# Altium schematic symbol library Custom components.SchLib: 21 symbols
Pins are listed as number, name and electrical type; pins without a type are passive.

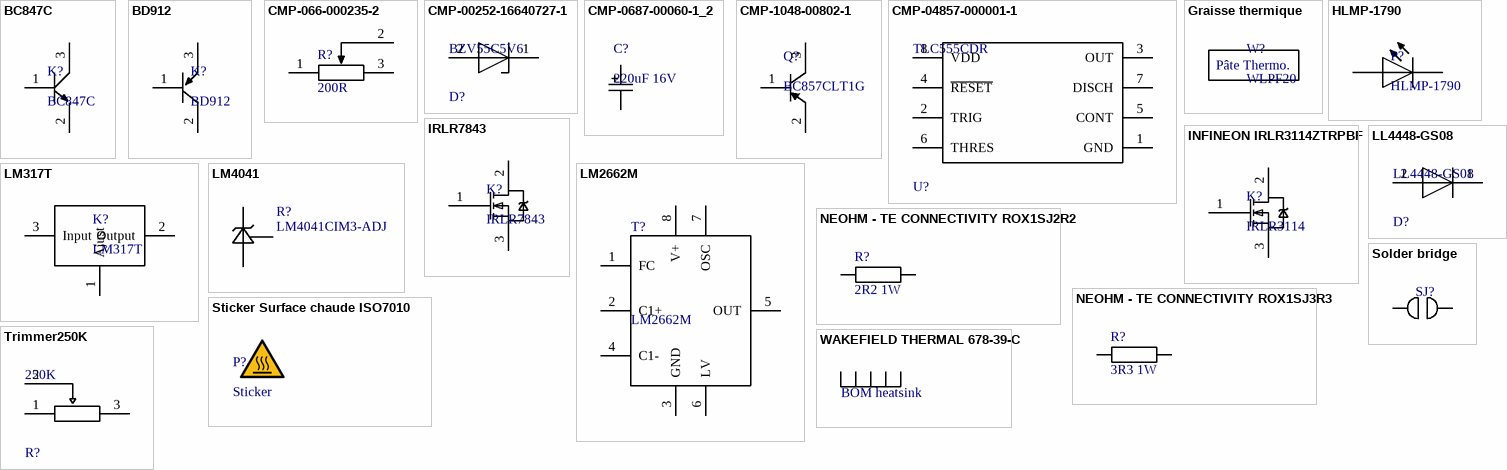
[diagram p0: symbols BC847C to WAKEFIELD THERMAL 678-39-C]

## BC847C
designator K?
NPN general purpose transistor
footprint SOT90P240X110-3M (SOT23, 3-Leads, Body 2.90x2.40mm, Pitch 0.90mm, IPC Low Density)
pins: 1 Base, 2 Collector, 3 Emitter

## BD912
designator K?
PNP transistor
footprint TO220 With WAKEFIELD THERMAL 678-39-C
pins: 1 Base, 2 Collector, 3 Emitter

## CMP-066-000235-2
designator R?, comment 200R
RESADJ 200ohm Cermet 25 turns; Manufacturer: Bourns Incorporated; Tolerance: ±10%; TemperatureCoeff: ±100ppm/°C; IsStocked: 1; PN: PN-614445; Power: 500mW; TemperatureRange: -55°C to +125°C; Supplier 1: Farnell; Category: Passives; Supplier Price 1: 3.36; Value: 200R; Supplier Part Number 1: 9353747; SubCategory: Resistances ajustables
footprint FP-3296W-MFG
pins: 1, 2, 3

## CMP-00252-16640727-1
designator D?, comment BZV55C5V6
BZV55C5V6 Diode Zener Single 5.6V 2% 3.33mW 2-Pin MELF DO-213AA Bag; NexarPartId: 16640727; Test Current: 5mA; Voltage Tolerance: 7%; Min Operating Temperature: -65°C; RoHS: Non-Compliant; Element Configuration: Single; Number of Pins: 2; Zener Voltage: 5.6V; Lifecycle Status: Production; Mount: Surface Mount; Tolerance: 7%; Max Operating Temperature: 175°C
footprint FP-DO-213AA-MFG
pins: 1 C, 2 A

## CMP-0687-00060-1_2
designator C?, comment 220uF 16V
Aluminum Electrolytic Capacitor, UD Series, Low Impedance, 220 uF, 16 V, + / - 20%, -55 to 105 degC, Chip Type, 6.3 x 7.7 mm D x L, Pb-Free, Reel; PartNumber: UUD1C221MCL1GS; Manufacturer: Nichicon; Impedance: 0.34 Ohm; Tolerance Rated Capacitance: -20 to 20%; Endurance Time: 2000 h; Rated Ripple Current (at 100kHz): 280 mA; Packing: Dia382mm Reel; PackageReference: CAPAE-D6.3H7.7; DatasheetVersion: 08/2012; Rated Voltage: 16 V; Rated Capacitance: 220 uF; ComponentLink1URL: http://www.nichicon.co.jp/; ComponentLink3URL: http://products.nichicon.co.jp/en/pdf/XJA043/e-ud.pdf; PackageDescription: 2-Pin Surface Mount Device, Diameter 6.3 mm, Height 7.7 mm, Pitch 5.4 mm; ComponentLink3Description: Package Specification; Length: 7.7 mm; RoHS: TRUE; Mounting Technology: Surface Mount; ComponentLink2Description: Datasheet; ComponentLink2URL: http://products.nichicon.co.jp/en/pdf/XJA043/e-ud.pdf; Diameter: 6.3 mm; ComponentLink1Description: Manufacturer URL
footprint NIC-CAPA2-6.3X7.7_V (Aluminum Electrolytic Capacitor, Diameter 6.3mm, Height 8mm, Pitch 5.4mm)
pins: 1, 2

## CMP-1048-00802-1
designator Q?, comment BC857CLT1G
General Purpose Transistor, PNP Silicon, 3-Pin SOT-23, Pb-Free, Tape and Reel; Manufacturer: On Semiconductor; IC Continuous (A): -0.1; fT Min (MHz): 100; Polarity: PNP; PackageReference: SOT-23-3-318-08; ComponentLink3Description: Package Specification; ComponentLink2Description: Datasheet; PackageDescription: 3-Pin Small Outline Transistor, Body 2.92 x 1.3 mm, Pitch 0.95 mm; PackageVersion: Rev. AP, 11/2009; ComponentLink1Description: Manufacturer URL; PartNumber: BC857CLT1G; ComponentLink2URL: http://www.onsemi.cn/pub_link/Collateral/BC856ALT1-D.PDF; ComponentLink1URL: http://www.onsemi.com/; ComponentLink3URL: http://www.onsemi.cn/pub_link/Collateral/318-08.PDF; RoHS: TRUE; Packing: Tape and Reel; Mounting Technology: Surface Mount; DatasheetVersion: Rev. 13
footprint SOT90P240X110-3M (SOT23, 3-Leads, Body 2.90x2.40mm, Pitch 0.90mm, IPC Low Density)
pins: 1 B, 2 E, 3 C

## CMP-04857-000001-1
designator U?, comment TLC555CDR
IC OSC SGL TIMER 2.1MHZ 8-SOIC; Min Supply Voltage: 2V; Number of Channels: 1; Max Power Dissipation: 725mW; Max Supply Voltage: 15V; Low Level Output Current: 100mA; Current Rating: 250A; Quiescent Current: 250uA; Operating Supply Current: 360uA; High Level Output Current: -10mA; Width: 3.91mm; Case/Package: SOIC; Weight: 0.002561oz; Frequency: 2.1MHz; Height: 1.58mm; Package Quantity: 2500; REACH SVHC: No SVHC; Number of Timers/Counters: 1; Lead Free: Lead Free; Number of Pins: 8; Max Operating Temperature: 125°C; Min Operating Temperature: -40°C; Length: 4.9mm; Radiation Hardening: No; Packaging: Tape and Reel; Termination: SMD/SMT; Mount: Surface Mount; Power Dissipation: 725mW; PN: TLC555CDR; Supplier 1: Mouser; Supplier Part Number 1: 595-TLC555CDR; Supplier Price 1: 0.553; IsStocked: 1
footprint D0008A_M (SOIC, 8-Leads, Body 5x4mm, Pitch 1.27mm, IPC Low Density)
pins: 1 GND (power), 2 TRIG (power), 3 OUT, 4 ~{RESET} (power), 5 CONT (power), 6 THRES (power), 7 DISCH (power), 8 VDD (power)

## Graisse thermique
designator W?, comment WLPF20
Pâte thermoconductrice 0.7W/mK 10ml WLPF20 Fischer elektronik; IsStocked: 1; PN: WLPF20; Supplier 1: ETML; Supplier Part Number 1: MAG 369.123; Supplier Price 1: 12.83
text: Pâte Thermo.

## HLMP-1790
designator P?
HLMP-1790 2V 2mA; PN: MAG 355.161; IsStocked: 1; Supplier 1: ETML; Supplier Part Number 1: MAG 355.161; Supplier Price 1: 0.00
footprint FP-6_544-5255_01-4-MFG
pins: A, K

## INFINEON IRLR3114ZTRPBF
designator K?, comment IRLR3114
MOSFET de puissance, Canal N, 40 V, 42 A, 0.0039 ohm, TO-252AA, Montage en surface; Supplier 1: Mouser; Supplier 2: Farnell; Supplier 3: Digikey; Supplier Price 1: 1.03; Supplier Price 2: 1.06; Supplier Price 3: 1.46; Supplier Part Number 1: 942-IRLR3114ZTRPBF; Supplier Part Number 2: 2726018; Supplier Part Number 3: IRLR3114ZTRPBFCT-ND
footprint DPAK228P991X238-3M (D-PAK, 3-Pads, Body 6.21x6.73mm (max), IPC Low Density)
pins: 1 G, 2 D, 3 S

## IRLR7843
designator K?
N channel Mosfet
footprint DPAK228P991X238-3M (D-PAK, 3-Pads, Body 6.21x6.73mm (max), IPC Low Density)
pins: 1 G, 2 D, 3 S

## LL4448-GS08
designator D?
DIODE GEN PURP 75V 150MA SOD80; Manufacturer: Vishay Small Signal; Max Junction Temp: +175°C; Automotive Grade: Grade 0; Capacitance: 4pF; Peak Reverse Current: 5uA; Forward Current: 300mA; Max Repetitive Reverse Voltage: 100V; Max Surge Forward Current: 2A; Value: 4pF; ComponentLink2Description: Datasheet; Height: 1.6mm; ComponentLink2URL: http://www.vishay.com/docs/85557/ll4148.pdf; Category: Diode; Lead Free: Yes; Device Class L3: Rectifier Diodes; Reverse Voltage: 75V; Mouser Description: Diodes - General Purpose, Power, Switching 100 Volt 100mA; RoHS: TRUE; Temperature: to +175°C; Automotive: Yes; Octopart: https://octopart.com/ll4448-gs08-vishay+small+signal-40886; Digikey Description: DIODE GEN PURP 75V 150MA SOD80; Manufacturer Part Number: LL4448-GS08; Temperature Range High: +175°C; Device Class L1: Discrete Semiconductors; Device Class L2: Diodes; Package: 6.560-5005.01-4
footprint FP-6_560-5005_01-4-MFG
pins: 1 C, 2 A

## LM317T
designator K?
TO-220 ajustable votage regulator
footprint TO220 With WAKEFIELD THERMAL 678-39-C
pins: 1 Ajust, 2 Output, 3 Input

## LM2662M
designator T?
Switched Capacitor Voltage Converter, 8-pin Narrow SOIC; Manufacturer: Texas Instruments; PackageTopMarking: NSZXTT*LM26*62M; PowerWise: N; CompType: Switch Caps; IsStocked: 1; PackageDescription: SOIC Narrow, 4.9 x 3.9 x 1.45mm, 8 Lead, 1.27mm Pitch; ComponentLink1URL: http://www.ti.com/general/docs/lit/getliterature.tsp?genericPartNumber=LM2662&fileType=pdf; PackageReference: D0008A; PinCount: 8; Code_JEDEC: MS-012-AA; ComponentLink1Description: Datasheet URL; RoHS: N; Code_IPC: SOIC127P600-8; PN: LM2662M; Supplier 1: Farnell; Supplier Part Number 1: 9306803; Supplier Price 1: 2.51
footprint D0008A_M (SOIC, 8-Leads, Body 5x4mm, Pitch 1.27mm, IPC Low Density)
pins: 1 FC (power), 2 C1+ (power), 3 GND (power), 4 C1- (power), 5 OUT (power), 6 LV (power), 7 OSC (power), 8 V+ (power)

## LM4041
designator R?, comment LM4041CIM3-ADJ
Precision Micropower Shunt Voltage Reference, 3-pin SOT-23; Manufacturer: Texas Instruments; PowerWise: N; PackageTopMarking: RAC*XTT; CompType: Voltage Reference IC; DatasheetVersion: Mar-2005; PackageDescription: Molded SOT-23, .115 x .051 x .037in Body, 3 Lead, .075 in Pitch; PackageReference: DBZ0003A; PinCount: 3; PackageVersion: revB, Mar-2003; ComponentLink1URL: http://www.ti.com/general/docs/lit/getliterature.tsp?genericPartNumber=LM4041-N&fileType=pdf; RevisionNote: Component URLs added; RoHS: N; ComponentLink1Description: Datasheet URL
footprint SOT90P240X110-3M (SOT23, 3-Leads, Body 2.90x2.40mm, Pitch 0.90mm, IPC Low Density)
pins: 1 FB (power), 2 +V, 3 -V

## NEOHM - TE CONNECTIVITY ROX1SJ2R2
designator R?, comment 2R2 1W
Résistance traversante, 2.2 ohm, ROX, 1 W, ± 5%, Axial, 350 V; Manufacturer Number: MRS25000C3308FCT00; Manufacturer: Vishay; PN: PN-918915; Voltage: 350V; Power: 0.6W; TemperatureRange: -55°C to 155°C; Value: 2.2; Tolerance: ±1%; IsStocked: 1; TemperatureCoeff: ±50ppm/°C; Supplier Price 1: 0.1500; SubCategory: Resistances film metallique; Category: Passives; Supplier 1: Farnell; Supplier 2: Mouser; Supplier 3: Digikey; Supplier Part Number 1: 3399704; Supplier Part Number 2: 279-ROX1SJ3R3; Supplier Part Number 3: A131468CT-ND
footprint NEOHM 1W ROX1S (THT, resistor)
pins: 1, 2

## NEOHM - TE CONNECTIVITY ROX1SJ3R3
designator R?, comment 3R3 1W
Résistance traversante, 3.3 ohm, ROX, 1 W, ± 5%, Axial, 350 V; Manufacturer Number: MRS25000C3308FCT00; Manufacturer: Vishay; PN: PN-918915; Voltage: 350V; Power: 0.6W; TemperatureRange: -55°C to 155°C; Value: 3.3; Tolerance: ±1%; IsStocked: 1; TemperatureCoeff: ±50ppm/°C; Supplier Price 1: 0.1500; SubCategory: Resistances film metallique; Category: Passives; Supplier 1: Farnell; Supplier 2: Mouser; Supplier 3: Digikey; Supplier Part Number 1: 3399704; Supplier Part Number 2: 279-ROX1SJ3R3; Supplier Part Number 3: A131468CT-ND
footprint NEOHM 1W ROX1S (THT, resistor)
pins: 1, 2

## Solder bridge
designator SJ?  (value not drawn)
Solder bridge
footprint Solder brige (Chip Resistor, 2-Leads, Body 2.00x1.25mm, IPC Low Density)
pins: 1, 2

## Sticker Surface chaude ISO7010
designator P?, comment Sticker
PIC W017-TRI 015-PE-SHEET/1; IsStocked: 1; PN: PIC W017-TRI 015-PE-SHEET/1; Supplier 1: Distrelec; Supplier Part Number 1: 302-20-433; Supplier Price 1: 0.246
footprint Sticker surface chaude

## Trimmer250K
designator R?, comment 250K
TRIMMER 250K OHM 0.5W PC PIN TOP; Manufacturer: Bourns; Manufacturer Part Number: 3296W-1-254LF; Value: 250kΩ; Standoff Height: 0.38mm; Temperature Coefficient: 100ppm/°C; Tolerance: 10%; Voltage Rating: 300V; Category: Res; Octopart: https://octopart.com/3296w-1-254lf-bourns-574856; Device Class L2: Resistors; Mouser Description: Res Cermet Trimmer 250K Ohm 10% 1/2W 25(Elec)Turn 2.19mm (9.53 X 4.83 X 11.55mm) Pin Thru-Hole Tube; Temperature: -55°C to +125°C; Temperature Range Low: -55°C; ComponentLink2URL: https://www.bourns.com/data/global/pdfs/3296.pdf; Power Rating: 0.5W; Package: 3296W; Lead Free: Yes; Series: Trimpot 3296-Sealed; Height: 12.05mm; Device Class L1: Passive Components; Device Class L3: Variable Resistors and Potentiometers; ComponentLink2Description: Datasheet; Resistance: 250kΩ; Digikey Description: TRIMMER 250K OHM 0.5W PC PIN TOP; Automotive: No; RoHS: TRUE; Temperature Range High: +125°C
footprint FP-3296W-MFG
pins: 1 CCW, 2 WIPER, 3 CW

## WAKEFIELD THERMAL 678-39-C
designator *  (value not drawn)
HEAT SINK, ALUMINIUM, TO-PACKAGE, SMD
footprint Designator
text: BOM heatsink